# Altium schematic symbol library Schematic_Library.SchLib: 35 symbols
Pins are listed as number, name and electrical type; pins without a type are passive.

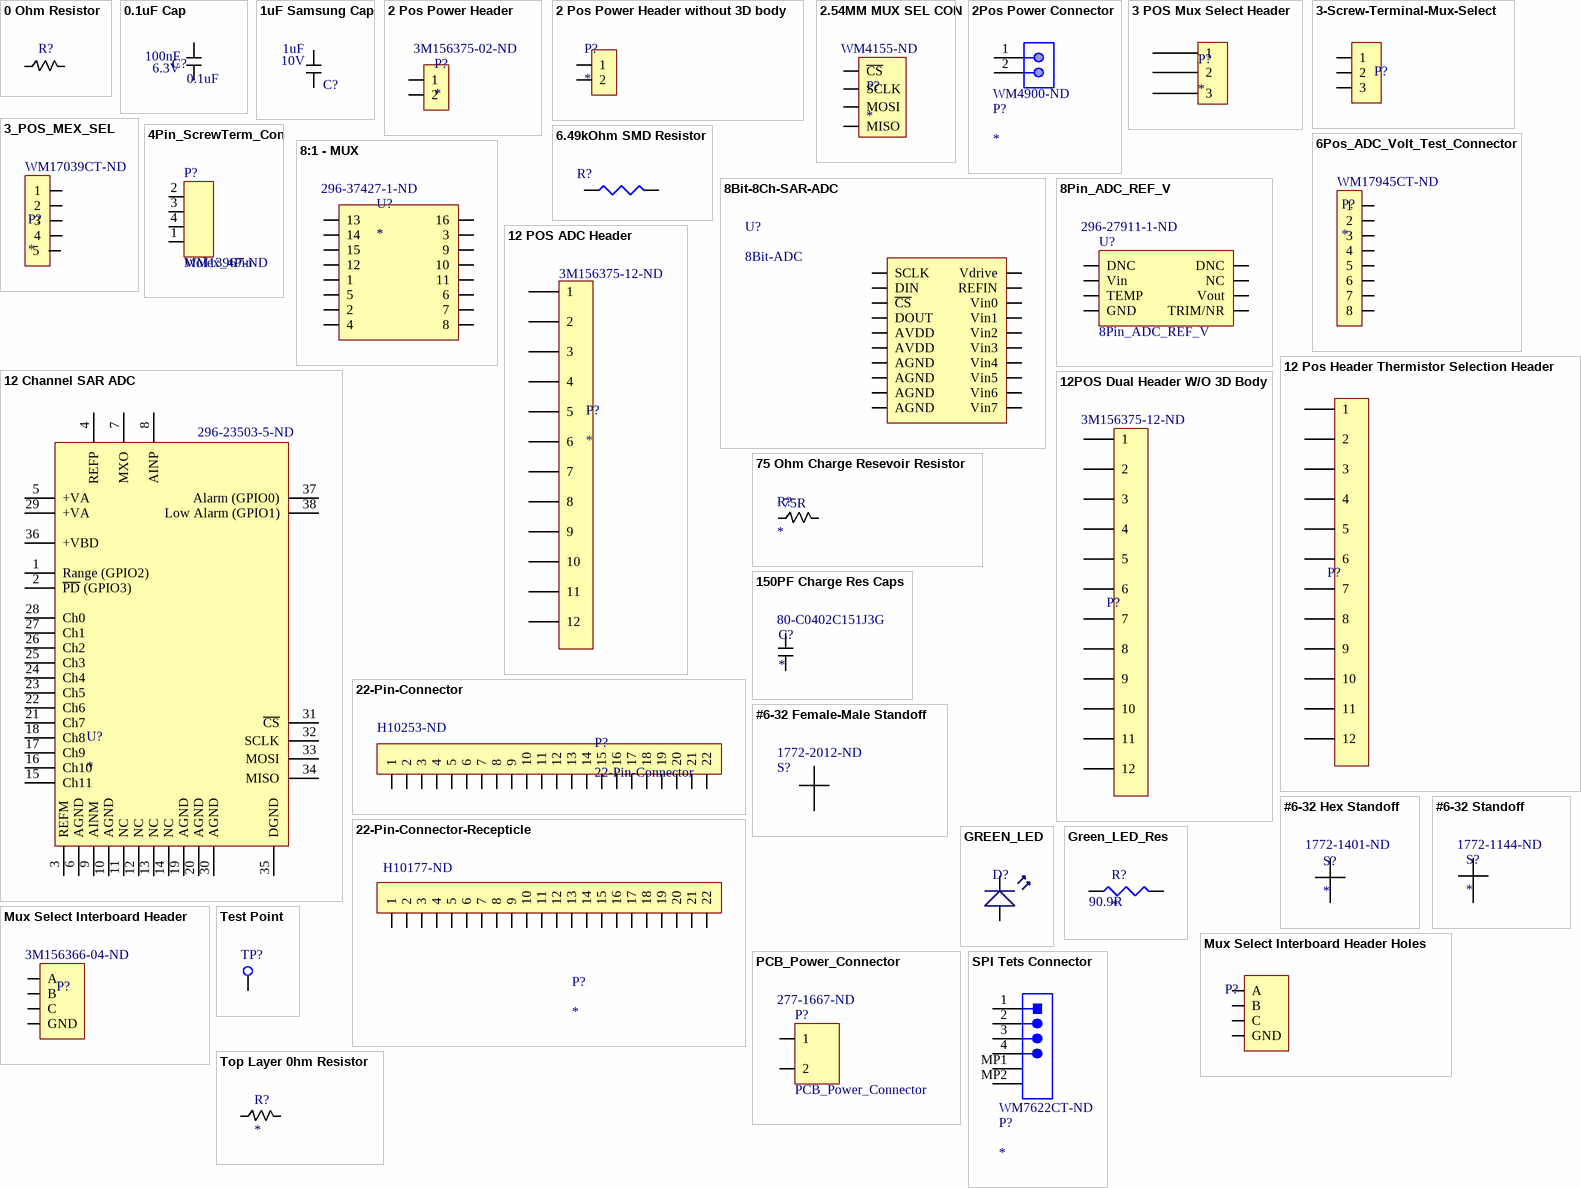
[diagram p0: symbols 0 Ohm Resistor to Top Layer 0hm Resistor]

## 0 Ohm Resistor
designator R?  (value not drawn)
0 Ohm Resistor for connecting polygon pours
footprint 0 Ohm Resistor
pins: 1, 2

## 0.1uF Cap
designator C?, comment 0.1uF  Capacitance: 100nF  Voltage Rating: 6.3V
0.1uF Bypass Cap; Manufacturer: KEMET; Manufacturer Part Number: C0603C104K9RACTU; Dielectric Material: Ceramic; Tolerance: 10%; Dielectric: X7R; Dissipation Factor: 5%; RoHS: Yes; Mount: Surface Mount; Case/Package: 0603; Case Code (Imperial): 0603; Case Code (Metric): 1608; Min Operating Temperature: -55°C; Max Operating Temperature: 125°C; Package Quantity: 4000; Packaging: Tape and Reel; Voltage Rating (DC): 6.3V; Termination: SMD/SMT; Length: 1.6mm; Height: 0.8mm; Width: 0.8mm; Thickness: 0.034inch; ComponentLink1URL: https://datasheet.ciiva.com/13371/kem-c1002-x7r-smd-357932-13371879.pdf?src-supplier=Mouser; ComponentLink1Description: https://datasheet.ciiva.com/13371/kem-c1002-x7r-smd-357932-13371879.pdf?src-supplier=Mouser; Supplier 1: Digi-Key; Stock 1: 758; Pricing 1: 1=0.19000, 10=0.13800, 100=0.06480, 500=0.04546, 1000=0.03763 (USD); Supplier Part Number 1: 399-15351-1-ND
footprint 0.1uF Bypass Capacitor (Chip Capacitor, 2-Leads, Body 1.60x0.80mm, IPC Medium Density)
pins: 1, 2

## 1uF Samsung Cap
designator C?, comment Voltage Rating: 10V  (hidden comment: 1uF)
1uF Samsung Cap; Manufacturer Part Number: CL10B105KP8NNNC; Tolerance: 10%; Dielectric: X7R; Manufacturer: Samsung; Mount: Surface Mount; Case/Package: 0603; Case Code (Metric): 1608; Case Code (Imperial): 0603; Contact Plating: Tin; Min Operating Temperature: -55°C; Max Operating Temperature: 125°C; Package Quantity: 1; Packaging: Tape and Reel; Voltage Rating (DC): 10V; Length: 1.6mm; Height: 0.8mm; Width: 0.031inch; Thickness: 0.035inch; Depth: 0.8mm; Radiation Hardening: No; Lead Free: Lead Free; ComponentLink1URL: https://media.digikey.com/pdf/Data%20Sheets/Samsung%20PDFs/CL_Series_MLCC_ds.pdf?src-supplier=Digi-Key; ComponentLink1Description: https://media.digikey.com/pdf/Data%20Sheets/Samsung%20PDFs/CL_Series_MLCC_ds.pdf?src-supplier=Digi-Key; ComponentLink2URL: http://www1.futureelectronics.com/doc/SAMSUNG/CL10B105KP8NNNC.pdf?src-supplier=Future+Electronics; ComponentLink2Description: http://www1.futureelectronics.com/doc/SAMSUNG/CL10B105KP8NNNC.pdf?src-supplier=Future+Electronics; ComponentLink3URL: https://www.verical.com/server-webapp/html/getDatasheet?partID=358410&src-supplier=Verical; ComponentLink3Description: https://www.verical.com/server-webapp/html/getDatasheet?partID=358410&src-supplier=Verical; Supplier 1: Digi-Key; Stock 1: 10781730; Pricing 1: 1=0.1, 10=0.052, 100=0.0233, 500=0.0166, 1000=0.0131 (USD); Supplier Part Number 1: 1276-1946-1-ND; Capacitance: 1uF
footprint 1UF_SAMSUNG
pins: 1, 2

## 2 Pos Power Header
designator P?  Supplier Part Number 1: 3M156375-02-ND
Manufacturer: 3M; Manufacturer Part Number: 929715-06-01-EU; Gender: Male; Number of Positions: 2; Connector Type: Male Pin; Current Rating: 2.5A; Pitch: 2.54mm; Row Spacing: 0.1inch; Supplier 1: Digi-Key; Stock 1: 0; Pricing 1: 1=0.43000, 10=0.40200, 25=0.34480, 50=0.29300, 100=0.28160, 250=0.25284, 500=0.24136 (USD); RoHS: Yes; Mount: Through Hole; Contact Plating: Gold; Color: Black; Contact Material: Copper Alloy; Housing Material: Polycyclohexylenedimethylene; Min Operating Temperature: -40°C; Max Operating Temperature: 105°C; Number of Rows: 2; Packaging: Bulk; Termination: Solder; Package Quantity: 1000; Contact Gender: Male; Contact Mating Length: 0.318inch; ComponentLink1URL: https://datasheet.ciiva.com/5147/ts0769-35914-5147696.pdf?src-supplier=Mouser; ComponentLink1Description: https://datasheet.ciiva.com/5147/ts0769-35914-5147696.pdf?src-supplier=Mouser; ComponentLink2URL: https://datasheet.ciiva.com/6818/ts0769-6818155.pdf?src-supplier=Digi-Key; ComponentLink2Description: https://datasheet.ciiva.com/6818/ts0769-6818155.pdf?src-supplier=Digi-Key
footprint 2 POS Power Header (Connecting Power between boards)
pins: 1, 2

## 2 Pos Power Header without 3D body
designator P?
No supplier part for this schematic symbol, only here to create board to board holes for the power header
footprint 2 Pos Power Header - duplicate (Without 3D body,)
pins: 1, 2

## 2.54MM MUX SEL CON
designator P?  Supplier Part Number 1: WM4155-ND
SPI Connector; Manufacturer: Molex; Manufacturer Part Number: 0705530108; Contact Resistance: 30mR; Number of Positions: 4; Connector Type: Male Pin; Pitch: 0.1inch; Voltage Rating: 250V; Current Rating: 3A; Gender: Male; Insulation Resistance: 1GR; Glow Wire Compliant: Non-compliant; Supplier 1: Digi-Key; Stock 1: 1281; Mount: Through Hole; Contact Plating: Gold; Contact Material: Bronze; Housing Material: Polyester; Color: Black; Housing Color: Black; Min Operating Temperature: -40°C; Max Operating Temperature: 105°C; Number of Rows: 1; Packaging: Rail/Tube; Termination: Solder; Orientation: Right Angle; Fastening Type: Latch; Length: 12.71mm; Contact Mating Length: 0.24inch; Depth: 13.59mm; Radiation Hardening: No; ComponentLink1URL: https://www.molex.com/pdm_docs/ps/PS-70400.pdf?src-supplier=Digi-Key; ComponentLink1Description: https://www.molex.com/pdm_docs/ps/PS-70400.pdf?src-supplier=Digi-Key; ComponentLink2URL: http://www.molex.com/webdocs/datasheets/pdf/en-us/0705530108_PCB_HEADERS.pdf?src-supplier=Avnet+Asia; ComponentLink2Description: http://www.molex.com/webdocs/datasheets/pdf/en-us/0705530108_PCB_HEADERS.pdf?src-supplier=Avnet+Asia; Pricing 1: 1=2.03, 10=1.838, 100=1.575, 500=1.3125, 1680=1.0875, 5040=0.9975, 10080=0.975 (USD); Material: Brass; Package Quantity: 1680; Number of Contacts: 4; Voltage Rating (DC): 250V; Number of Circuits: 4; REACH SVHC: Unknown; ELV: Compliant; Flammability Rating: UL94 V-0; ComponentLink3URL: http://www.farnell.com/datasheets/2027073.pdf?src-supplier=Element14; ComponentLink3Description: http://www.farnell.com/datasheets/2027073.pdf?src-supplier=Element14; ComponentLink4URL: http://www.molex.com/webdocs/datasheets/pdf/en-us/0705530108_PCB_HEADERS.pdf?src-supplier=Avnet; ComponentLink4Description: http://www.molex.com/webdocs/datasheets/pdf/en-us/0705530108_PCB_HEADERS.pdf?src-supplier=Avnet; ComponentLink5URL: http://www.mouser.com/ds/2/276/0705530108_PCB_HEADERS-172949.pdf?src-supplier=Mouser; ComponentLink5Description: http://www.mouser.com/ds/2/276/0705530108_PCB_HEADERS-172949.pdf?src-supplier=Mouser
footprint 4POS 2.54MM HEADER MUX SEL
pins: 1 MISO, 2 MOSI, 3 SCLK, 4 ~{CS}

## 2Pos Power Connector
designator P?  Supplier Part Number 1: WM4900-ND
Headers & Wire Housings R/A HDR 2P low profile single; Manufacturer: Molex; Manufacturer Part Number: 70553-0001; Current Rating: 3A; Voltage Rating: 250V; Contact Resistance: 30mR; Number of Positions: 2; Gender: Male; Insulation Resistance: 1GR; Pitch: 2.54mm; Approvals: UL; Glow Wire Compliant: Non-compliant; Supplier 1: Digi-Key; Stock 1: 8671; Pricing 1: 1=0.71000, 72=0.53486, 144=0.51264, 504=0.44575, 1008=0.36775, 5040=0.32318, 10008=0.30089 (USD); RoHS: Yes; Mount: Through Hole; Contact Material: Bronze; Contact Plating: Gold; Color: Black; Housing Color: Black; Material: Brass; Housing Material: Thermoplastic; Min Operating Temperature: -40°C; Max Operating Temperature: 105°C; Package Quantity: 2880; Number of Rows: 1; Packaging: Rail/Tube; Termination: Through Hole; Number of Contacts: 2; Orientation: Right Angle; Number of Circuits: 2; Voltage Rating (DC): 250V; Radiation Hardening: No; REACH SVHC: Unknown; Lead Free: Lead Free; Flammability Rating: UL94 V-0; ELV: Compliant; ComponentLink1URL: https://datasheet.ciiva.com/5158/0705530001-pcb-headers-172944-5158768.pdf?src-supplier=Mouser; ComponentLink1Description: https://datasheet.ciiva.com/5158/0705530001-pcb-headers-172944-5158768.pdf?src-supplier=Mouser; ComponentLink2URL: https://datasheet.ciiva.com/11746/0900766b80d8d649-11746625.pdf?src-supplier=RSComponents; ComponentLink2Description: https://datasheet.ciiva.com/11746/0900766b80d8d649-11746625.pdf?src-supplier=RSComponents; ComponentLink3URL: https://datasheet.ciiva.com/16657/0705530001-pcb-headers-16657777.pdf?src-supplier=Avnet+Europe; ComponentLink3Description: https://datasheet.ciiva.com/16657/0705530001-pcb-headers-16657777.pdf?src-supplier=Avnet+Europe; ComponentLink4URL: https://datasheet.ciiva.com/7920/ps-70541-7920854.pdf?src-supplier=Element14; ComponentLink4Description: https://datasheet.ciiva.com/7920/ps-70541-7920854.pdf?src-supplier=Element14; ComponentLink5URL: https://datasheet.ciiva.com/30195/179180705530001-pcb-headers-30195548.pdf?src-supplier=Onlinecomponents.com; ComponentLink5Description: https://datasheet.ciiva.com/30195/179180705530001-pcb-headers-30195548.pdf?src-supplier=Onlinecomponents.com; ComponentLink6URL: https://datasheet.ciiva.com/1438/1887076-1438989.pdf?src-supplier=Element14; ComponentLink6Description: https://datasheet.ciiva.com/1438/1887076-1438989.pdf?src-supplier=Element14; ComponentLink7URL: https://datasheet.ciiva.com/10090/0705530001-pcb-headers-10090317.pdf?src-supplier=Avnet; ComponentLink7Description: https://datasheet.ciiva.com/10090/0705530001-pcb-headers-10090317.pdf?src-supplier=Avnet
footprint 2Pos Power Connector
pins: 1, 2

## 3 POS Mux Select Header
designator P?
Mux Sel Header TP; Manufacturer: Adam Equipment; Manufacturer Part Number: PH1RA-03-UA; Supplier 1: Digi-Key; Stock 1: 4630; Pricing 1: 1=0.12000, 10=0.11300, 100=0.06960, 500=0.05760, 1000=0.05040, 5000=0.04320, 10000=0.04200 (USD); RoHS: Yes; Lead Free: Lead Free; ComponentLink1URL: https://datasheet.ciiva.com/16476/page-292-295-16476086.pdf?src-supplier=Future+Electronics; ComponentLink1Description: https://datasheet.ciiva.com/16476/page-292-295-16476086.pdf?src-supplier=Future+Electronics; Supplier Part Number 1: 2057-PH1RA-03-UA-ND
footprint Mux Select 3 Pos Header Pin
pins: 1, 2, 3

## 3-Screw-Terminal-Mux-Select
designator P?  (value not drawn)
Mux Select; Manufacturer: Wurth Electronics; Manufacturer Part Number: 691103110003; Voltage Rating: 125V; Current Rating: 10A; Number of Levels: 1; Number of Positions Per Level: 3; Wire/Cable Gauge: 26AWG; Pitch: 0.138inch; Stripping Length: -6mm; Supplier 1: Digi-Key; Stock 1: 617; Pricing 1: 1=1.1, 10=0.986, 50=0.851, 100=0.762, 500=0.717, 980=0.672 (USD); Contact Material: Brass; Color: Blue; Housing Material: Nylon; Number of Contacts: 3; Termination: Screw; Length: 7mm; Height: 12.2mm; Width: 11.5mm; REACH SVHC: Unknown; ComponentLink1URL: http://www.farnell.com/datasheets/1442217.pdf?src-supplier=Element14; ComponentLink1Description: http://www.farnell.com/datasheets/1442217.pdf?src-supplier=Element14; Supplier Part Number 1: 732-2746-ND
footprint 3-Screw-terminal-Mux-Select
pins: 1 "Output1", 2 "Output1", 3 "Output1"

## 3_POS_MEX_SEL
designator P?  Supplier Part Number 1: WM17039CT-ND
Connector Header Surface Mount, Right Angle 3 position 0.049" (1.25mm); Manufacturer: Molex; Manufacturer Part Number: 505567-0371; Connector Type: Header,Male Pin; Number of Positions: 3; Supplier 1: Digi-Key; Stock 1: 2041; Pricing 1: 1=0.84000, 10=0.74100, 100=0.63940, 500=0.52312 (USD); RoHS: No; Mount: Surface Mount; Contact Plating: Tin; Contact Material: Brass; Contact Shape: Square; Insulation Material: Nylon; Insulation Color: Black; Min Operating Temperature: -40°C; Max Operating Temperature: 105°C; Fastening Type: Ramp; Packaging: Cut Tape; Number of Rows: 1; Termination: Solder; Flammability Rating: UL94 V-0; ComponentLink1URL: https://www.molex.com/pdm_docs/sd/5055670371_sd.pdf?src-supplier=Digi-Key; ComponentLink1Description: https://www.molex.com/pdm_docs/sd/5055670371_sd.pdf?src-supplier=Digi-Key; ComponentLink2URL: http://www.farnell.com/datasheets/2551041.pdf?src-supplier=Newark; ComponentLink2Description: http://www.farnell.com/datasheets/2551041.pdf?src-supplier=Newark
footprint 3POS_MUX_SEL (CONN HEADER SMD R/A 3POS 1.25MM)
pins: 1, 2, 3, 4, 5

## 4Pin_ScrewTerm_Con
designator P?, comment Molex_4Pin  Supplier Part Number 1: WM13967-ND
Supplier 1: Digi-Key
footprint MUX_SEL_CON
pins: 1, 2, 3, 4

## 6.49kOhm SMD Resistor
designator R?  (value not drawn)
ADC Bias Resistor; Manufacturer: Panasonic; Manufacturer Part Number: ERA6AEB6491V; Tolerance: 0.1%; Resistance: 6.49kR; Temperature Coefficient: 25ppm/°C; Power Rating: 125mW; Voltage Rating: 100V; Supplier 1: Digi-Key; Stock 1: 15147; Pricing 1: 1=0.36, 10=0.302, 100=0.1182, 1000=0.0495, 2500=0.0454 (USD); Mount: Surface Mount; Case/Package: 0805; Number of Pins: 2; Contact Plating: Tin; Case Code (Metric): 2012; Case Code (Imperial): 0805; Min Operating Temperature: -55°C; Max Operating Temperature: 155°C; Composition: Thin Film,Metal Film; Packaging: Tape and Reel; Package Quantity: 1; Number of Terminations: 2; Termination: SMD/SMT; Military Standard: Not; Max Power Dissipation: 125mW; Voltage Rating (DC): 100V; Features: Automotive AEC-Q200; Length: 2mm; Height: 0.5mm; Width: 1.25mm; Depth: 1.25mm; Radiation Hardening: No; REACH SVHC: No SVHC; Lead Free: Lead Free; ComponentLink1URL: http://www.farnell.com/datasheets/485442.pdf?src-supplier=Farnell; ComponentLink1Description: http://www.farnell.com/datasheets/485442.pdf?src-supplier=Farnell; ComponentLink2URL: http://www.mouser.com/ds/2/315/AOA0000CE26-32660.pdf?src-supplier=Mouser; ComponentLink2Description: http://www.mouser.com/ds/2/315/AOA0000CE26-32660.pdf?src-supplier=Mouser; ComponentLink3URL: http://www.farnell.com/datasheets/2059650.pdf?src-supplier=Farnell; ComponentLink3Description: http://www.farnell.com/datasheets/2059650.pdf?src-supplier=Farnell; ComponentLink4URL: http://uk.rs-online.com/webdocs/0eb1/0900766b80eb1d8c.pdf?src-supplier=RSComponents; ComponentLink4Description: http://uk.rs-online.com/webdocs/0eb1/0900766b80eb1d8c.pdf?src-supplier=RSComponents; ComponentLink5URL: http://www.farnell.com/datasheets/485442.pdf?src-supplier=Element14; ComponentLink5Description: http://www.farnell.com/datasheets/485442.pdf?src-supplier=Element14; ComponentLink6URL: http://www.produktinfo.conrad.com/datenblaetter/1100000-1199999/001181295-da-01-en-WIDERSTAND_ERA_0805_6K49_0_1__5000ST.pdf?src-supplier=Conrad; ComponentLink6Description: http://www.produktinfo.conrad.com/datenblaetter/1100000-1199999/001181295-da-01-en-WIDERSTAND_ERA_0805_6K49_0_1__5000ST.pdf?src-supplier=Conrad; Supplier Part Number 1: P6.49KDACT-ND
footprint RESC2012X06N (Chip Resistor, 2-Leads, Body 2.00x1.25mm, IPC Medium Density)
pins: 1, 2

## 6Pos_ADC_Volt_Test_Connector
designator P?  Supplier Part Number 1: WM17945CT-ND
Connector Header Surface Mount, Right Angle 6 position 0.079" (2.00mm); Manufacturer: Molex; Manufacturer Part Number: 5055780671; Supplier 1: Digi-Key; Stock 1: 3435; Pricing 1: 1=1.02000, 10=0.89300, 100=0.77050 (USD); RoHS: No
footprint 6POS_ADC_Volt_TEST (CONN HEADER SMD R/A 6POS 2MM)
pins: 1, 2, 3, 4, 5, 6, 7, 8

## 8:1 - MUX
designator U?  Supplier Part Number 1: 296-37427-1-ND
Current Therm 8:1 Mux; Manufacturer: Texas Instruments; Manufacturer Part Number: SN74LV4051ATPWRQ1; Max Supply Voltage: 5.5V; Min Supply Voltage: 2V; Bandwidth: 35MHz; Propagation Delay: 7ns; Number of Channels: 1; Number of Inputs: 8; Logic Function: Multiplexer,Demultiplexer; On-State Resistance: 75R; Operating Supply Current: 20uA; Turn-On Delay Time: 20ns; Supply Type: Single; High Level Output Current: 25mA; Mount: Surface Mount; Case/Package: TSSOP; Number of Pins: 16; Weight: 0.002169oz; Contact Plating: Gold; Min Operating Temperature: -40°C; Max Operating Temperature: 105°C; Package Quantity: 1; Packaging: Tape and Reel; Number of Outputs: 1; Turn-Off Delay Time: 20ns; Number of Circuits: 1; Number of Bits: 8; Low Level Output Current: 25mA; Radiation Hardening: No; REACH SVHC: No SVHC; Lead Free: Lead Free; ComponentLink1URL: http://www.ti.com/lit/ds/symlink/sn74lv4051a-q1.pdf?src-supplier=Digi-Key; ComponentLink1Description: http://www.ti.com/lit/ds/symlink/sn74lv4051a-q1.pdf?src-supplier=Digi-Key; ComponentLink2URL: http://www.ti.com/lit/gpn/sn74lv4051a-q1?src-supplier=Mouser; ComponentLink2Description: http://www.ti.com/lit/gpn/sn74lv4051a-q1?src-supplier=Mouser; ComponentLink3URL: https://www.verical.com/server-webapp/html/getDatasheet?partID=137249&src-supplier=Verical; ComponentLink3Description: https://www.verical.com/server-webapp/html/getDatasheet?partID=137249&src-supplier=Verical; ComponentLink4URL: http://focus.ti.com/lit/ds/symlink/sn74lv4051a-q1.pdf?src-supplier=Avnet; ComponentLink4Description: http://focus.ti.com/lit/ds/symlink/sn74lv4051a-q1.pdf?src-supplier=Avnet; ComponentLink5URL: http://www.produktinfo.conrad.com/datenblaetter/1100000-1199999/001187277-da-01-en-IC_MUX_DE_SN74LV4051ATPWRQ1_TSSOP_16_TID.pdf?src-supplier=Conrad; ComponentLink5Description: http://www.produktinfo.conrad.com/datenblaetter/1100000-1199999/001187277-da-01-en-IC_MUX_DE_SN74LV4051ATPWRQ1_TSSOP_16_TID.pdf?src-supplier=Conrad; Supplier 1: Digi-Key; Stock 1: 2492; Pricing 1: 1=0.72000, 10=0.63600, 100=0.48730, 500=0.38522, 1000=0.30818 (USD); RoHS: Yes; -3db Bandwidth: 35MHz; ComponentLink6URL: https://datasheet.ciiva.com/15127/getdatasheetpartid-348177-15127781.pdf?src-supplier=Verical; ComponentLink6Description: https://datasheet.ciiva.com/15127/getdatasheetpartid-348177-15127781.pdf?src-supplier=Verical; ComponentLink7URL: https://datasheet.ciiva.com/14435/sn74lv4051a-q1-14435640.pdf?src-supplier=Avnet; ComponentLink7Description: https://datasheet.ciiva.com/14435/sn74lv4051a-q1-14435640.pdf?src-supplier=Avnet; ComponentLink8URL: https://datasheet.ciiva.com/29645/sn74lv4051a-q1-29645693.pdf?src-supplier=Digi-Key; ComponentLink8Description: https://datasheet.ciiva.com/29645/sn74lv4051a-q1-29645693.pdf?src-supplier=Digi-Key; ComponentLink9URL: https://datasheet.ciiva.com/29645/sn74lv4051a-q1-29645694.pdf?src-supplier=Digi-Key; ComponentLink9Description: https://datasheet.ciiva.com/29645/sn74lv4051a-q1-29645694.pdf?src-supplier=Digi-Key; ComponentLink10URL: https://datasheet.ciiva.com/29645/sn74lv4051a-q1-29645695.pdf?src-supplier=Digi-Key; ComponentLink10Description: https://datasheet.ciiva.com/29645/sn74lv4051a-q1-29645695.pdf?src-supplier=Digi-Key
footprint 8x1 16SOIC MUX (IC MUX/DEMUX 8X1 16SOIC)
pins: 1 "Output1", 2 "Output1", 3 "Output1", 4 "Output1", 5 "Output1", 6 "Output1", 7 "Output1", 8 "Output1", 9 "Output1", 10 "Output1", 11 "Output1", 12 "Output1", 13 "Output1", 14 "Output1", 15 "Output1", 16 "Output1"

## 8Bit-8Ch-SAR-ADC
designator U?, comment 8Bit-ADC
8Bit SAR ADC; Manufacturer: Analog Devices; Manufacturer Part Number: AD7908WYRUZ-REEL7; Max Power Dissipation: 13.5mW; Number of Channels: 8; Interface: SPI; Sampling Rate: 1MS/s; Number of A/D Converters: 1; Resolution: 8b; Signal to Noise Ratio (SNR): 49dB; Input Capacitance: 20pF; Max Input Voltage: 2.525V; Min Input Voltage: 2.475V; Supplier 1: Digi-Key; Stock 1: 1000; Pricing 1: 1=5.68, 10=5.1, 100=4.1789 (USD); Case/Package: TSSOP; Number of Pins: 20; Min Operating Temperature: -40°C; Max Operating Temperature: 85°C; Package Quantity: 1000; Packaging: Tape and Reel; Number of Bits: 8; Number of Inputs: 8; Power Dissipation: 13.5mW; Radiation Hardening: No; Lead Free: Contains Lead; ComponentLink1URL: http://www.analog.com/media/en/technical-documentation/data-sheets/AD7908_7918_7928.pdf?src-supplier=Digi-Key; ComponentLink1Description: http://www.analog.com/media/en/technical-documentation/data-sheets/AD7908_7918_7928.pdf?src-supplier=Digi-Key; ComponentLink2URL: http://www.produktinfo.conrad.com/datenblaetter/1200000-1299999/001245580-da-01-en-IC_ADC_8B_AD7908WYRUZ_REEL7_TSSOP_20_ADI.pdf?src-supplier=Conrad; ComponentLink2Description: http://www.produktinfo.conrad.com/datenblaetter/1200000-1299999/001245580-da-01-en-IC_ADC_8B_AD7908WYRUZ_REEL7_TSSOP_20_ADI.pdf?src-supplier=Conrad; Supplier Part Number 1: AD7908WYRUZ-REEL7CT-ND
footprint 8Bit-8Ch-SAR-ADC
pins: 1 SCLK, 2 DIN, 3 ~{CS}, 4 AGND, 5 AVDD, 6 AVDD, 7 REFIN, 8 AGND, 9 Vin7, 10 Vin6, 11 Vin5, 12 Vin4, 13 Vin3, 14 Vin2, 15 Vin1, 16 Vin0, 17 AGND, 18 DOUT, 19 Vdrive, 20 AGND

## 8Pin_ADC_REF_V
designator U?  Supplier Part Number 1: 296-27911-1-ND
Manufacturer: Texas Instruments; Manufacturer Part Number: REF5025AQDRQ1; Max Input Voltage: 18V; Output Voltage: 2.5V; Min Input Voltage: 2.7V; Nominal Supply Current: 800uA; Tolerance: 0.1%; Max Output Current: 10mA; Operating Supply Current: 1.2mA; Temperature Coefficient: 3ppm/°C; Reference Type: Series; Output Type: Fixed; Number of Channels: 1; Case/Package: D; Number of Pins: 8; Weight: 0.002677oz; Min Operating Temperature: -40°C; Max Operating Temperature: 125°C; Packaging: Tape and Reel; Package Quantity: 1; Min Output Voltage: 2.5V; Output Current: 10mA; Max Output Voltage: 2.5V; Quiescent Current: 800uA; Radiation Hardening: No; Lead Free: Lead Free; ComponentLink1URL: http://www.ti.com/lit/ds/symlink/ref5025a-q1.pdf; ComponentLink1Description: http://www.ti.com/lit/ds/symlink/ref5025a-q1.pdf; ComponentLink2URL: http://www.ti.com/lit/ds/symlink/ref5020a-q1.pdf?src-supplier=Digi-Key; ComponentLink2Description: http://www.ti.com/lit/ds/symlink/ref5020a-q1.pdf?src-supplier=Digi-Key; ComponentLink3URL: http://www.ti.com/lit/ds/symlink/ref5030a-q1.pdf?src-supplier=Digi-Key; ComponentLink3Description: http://www.ti.com/lit/ds/symlink/ref5030a-q1.pdf?src-supplier=Digi-Key; Supplier 1: Digi-Key; Stock 1: 16802; Pricing 1: 1=3.54, 10=3.182, 100=2.607, 500=2.2193, 1000=1.8717 (USD)
footprint SOIC127P600X175-8N (SOIC, 8-Leads, Body 4.90x3.90mm, Pitch 1.27mm, IPC Medium Density)
pins: 1 DNC, 2 Vin, 3 TEMP, 4 GND, 5 TRIM/NR, 6 Vout, 7 NC, 8 DNC

## 12 Channel SAR ADC
designator U?  Supplier Part Number 1: 296-23503-5-ND
12 Bit SAR ADC; Manufacturer: Texas Instruments; Manufacturer Part Number: ADS7952SDBT; Min Supply Voltage: 2.7V; Max Supply Voltage: 5.25V; Interface: SPI; Number of Channels: 12; Sampling Rate: 1MS/s; Number of Converters: 1; Resolution: 12b; Polarity: Unipolar; Supply Type: Analog; Integral Nonlinearity (INL): 1.5LSB; Signal to Noise Ratio (SNR): 71.7dB; Power Consumption: 11.5mW; Operating Supply Voltage: 3.3V; Full Scale Error: 2LSB; Power Dissipation: 14.5mW; Nominal Supply Current: 2.3mA; Supplier 1: Digi-Key; Stock 1: 1697; Pricing 1: 1=9.30000, 10=8.40000, 50=8.00940, 100=6.95450, 500=6.05586, 1000=5.27445 (USD); RoHS: Yes; Mount: Surface Mount; Case/Package: TSSOP; Number of Pins: 38; Contact Plating: Gold; Min Operating Temperature: -40°C; Max Operating Temperature: 125°C; Packaging: Rail/Tube; Package Quantity: 50; Number of Bits: 12; Number of Elements: 1; Number of A/D Converters: 1; Number of Analog Inputs: 12; Conversion Rate: 1MS/s; Number of Inputs: 12; Radiation Hardening: No; Lead Free: Lead Free; REACH SVHC: No SVHC; ComponentLink1URL: https://datasheet.ciiva.com/41460/001186285-da-01-en-ic-adc-12bit-1m-ads7952sdbt-tssop-38-tid-41460243.pdf?src-supplier=Conrad; ComponentLink1Description: https://datasheet.ciiva.com/41460/001186285-da-01-en-ic-adc-12bit-1m-ads7952sdbt-tssop-38-tid-41460243.pdf?src-supplier=Conrad; ComponentLink2URL: https://datasheet.ciiva.com/14258/ads7961-14258981.pdf?src-supplier=Avnet; ComponentLink2Description: https://datasheet.ciiva.com/14258/ads7961-14258981.pdf?src-supplier=Avnet; ComponentLink3URL: https://datasheet.ciiva.com/1263/ads7950-1263926.pdf?src-supplier=Digi-Key; ComponentLink3Description: https://datasheet.ciiva.com/1263/ads7950-1263926.pdf?src-supplier=Digi-Key
footprint 12 Channel SAR ADC (TSSOP, 38-Leads, Body 9.70x4.40mm, Pitch 0.50mm, IPC High Density)
pins: 1 Range (GPIO2), 2 ~{PD} (GPIO3), 3 REFM, 4 REFP, 5 +VA, 6 AGND, 7 MXO, 8 AINP, 9 AINM, 10 AGND, 11 NC, 12 NC, 13 NC, 14 NC, 15 Ch11, 16 Ch10, 17 Ch9, 18 Ch8, 19 AGND, 20 AGND, 21 Ch7, 22 Ch6, 23 Ch5, 24 Ch4, 25 Ch3, 26 Ch2, 27 Ch1, 28 Ch0, 29 +VA, 30 AGND, 31 ~{CS}, 32 SCLK, 33 MOSI, 34 MISO, 35 DGND, 36 +VBD, 37 Alarm (GPIO0), 38 Low Alarm (GPIO1)

## 12 POS ADC Header
designator P?  Supplier Part Number 1: 3M156375-12-ND
Interboard connector for thermistors connecting to ADC; Manufacturer: 3M; Manufacturer Part Number: 929715-06-06-EU; Number of Positions: 12; Connector Type: Male Pin; Gender: Male; Pitch: 0.1inch; Supplier 1: Digi-Key; Stock 1: 0; Pricing 1: 1=1.86000, 10=1.69000, 25=1.58600, 50=1.51720, 100=1.44820, 250=1.31024, 500=1.20680 (USD); RoHS: Yes; Mount: Through Hole; Contact Plating: Gold; Color: Black; Number of Rows: 2; Packaging: Bulk; Termination: Solder; Package Quantity: 500; Row Spacing: 0.1inch; Contact Mating Length: 0.318inch; ComponentLink1URL: http://www.mouser.com/ds/2/1/ts0769-35914.pdf?src-supplier=Mouser; ComponentLink1Description: http://www.mouser.com/ds/2/1/ts0769-35914.pdf?src-supplier=Mouser; ComponentLink2URL: http://components.arrow.com/part/dataview/42715320S8912076N3321?src-supplier=Arrow; ComponentLink2Description: http://components.arrow.com/part/dataview/42715320S8912076N3321?src-supplier=Arrow; ComponentLink3URL: http://multimedia.3m.com/mws/mediawebserver?66666UuZjcFSLXTtmXME5x46EVuQEcuZgVs6EVs6E666666--?src-supplier=Digi-Key; ComponentLink3Description: http://multimedia.3m.com/mws/mediawebserver?66666UuZjcFSLXTtmXME5x46EVuQEcuZgVs6EVs6E666666--?src-supplier=Digi-Key; System: Connector
footprint 12 POS Dual Header (Board to Board ADC Channel Header)
pins: 1, 2, 3, 4, 5, 6, 7, 8, 9, 10, 11, 12

## 12 Pos Header Thermistor Selection Header
designator P?  (value not drawn)
Manufacturer: Amphenol FCI; Manufacturer Part Number: 67996-212HLF; Current Rating: 3A; Voltage Rating: 1.5kV; Number of Positions: 12; Insulation Resistance: 5GR; Gender: Male; Connector Type: Male Pin; Pitch: 2.54mm; Row Spacing: 0.1inch; Contact Post Length: 2.41mm; Supplier 1: Digi-Key; Stock 1: 8841; Pricing 1: 1=0.53000, 10=0.49400, 100=0.37900, 500=0.32960, 1000=0.27192, 5000=0.23896, 10000=0.22248 (USD); RoHS: Yes; Mount: Through Hole; Color: Black; Contact Plating: Gold,GXT; Contact Material: Bronze; Housing Color: Black; Housing Material: Thermoplastic; Min Operating Temperature: -65°C; Max Operating Temperature: 125°C; Package Quantity: 100; Number of Rows: 2; Packaging: Bulk; Contact Gender: Male; Termination: Solder; Max Voltage Rating (AC): 1.5kV; Number of Contacts: 12; Orientation: Straight; Length: 15.24mm; Contact Mating Length: 0.23inch; Depth: 4.83mm; REACH SVHC: No SVHC; ComponentLink1URL: https://datasheet.ciiva.com/728/67996-728947.pdf?src-supplier=Digi-Key; ComponentLink1Description: https://datasheet.ciiva.com/728/67996-728947.pdf?src-supplier=Digi-Key; ComponentLink2URL: https://datasheet.ciiva.com/10136/67996-10136811.pdf?src-supplier=Avnet; ComponentLink2Description: https://datasheet.ciiva.com/10136/67996-10136811.pdf?src-supplier=Avnet; Supplier Part Number 1: 609-3213-ND
footprint 12 POS Thermistor Selection Header (Jumpers are placed here to select which pin on ADC header)
pins: 1, 2, 3, 4, 5, 6, 7, 8, 9, 10, 11, 12

## 12POS Dual Header W/O 3D Body
designator P?  Supplier Part Number 1: 3M156375-12-ND  (hidden comment: *)
Connector Header Through Hole 12 position 0.100" (2.54mm); Manufacturer: 3M; Manufacturer Part Number: 929715-06-06-EU; Number of Positions: 12; Gender: Male; Connector Type: Male Pin; Pitch: 0.1inch; Supplier 1: Digi-Key; Stock 1: 0; Pricing 1: 1=1.86000, 10=1.69000, 25=1.58600, 50=1.51720, 100=1.44820, 250=1.31024, 500=1.20680 (USD); RoHS: Yes; Mount: Through Hole; Color: Black; Contact Plating: Gold; Package Quantity: 500; Number of Rows: 2; Packaging: Bulk; Termination: Solder; Row Spacing: 0.1inch; Contact Mating Length: 0.318inch; ComponentLink1URL: http://components.arrow.com/part/dataview/42715320S8912076N3321?src-supplier=Arrow; ComponentLink1Description: http://components.arrow.com/part/dataview/42715320S8912076N3321?src-supplier=Arrow; ComponentLink2URL: http://www.mouser.com/ds/2/1/ts0769-35914.pdf?src-supplier=Mouser; ComponentLink2Description: http://www.mouser.com/ds/2/1/ts0769-35914.pdf?src-supplier=Mouser; ComponentLink3URL: http://multimedia.3m.com/mws/mediawebserver?66666UuZjcFSLXTtmXME5x46EVuQEcuZgVs6EVs6E666666--?src-supplier=Digi-Key; ComponentLink3Description: http://multimedia.3m.com/mws/mediawebserver?66666UuZjcFSLXTtmXME5x46EVuQEcuZgVs6EVs6E666666--?src-supplier=Digi-Key
footprint 12POS Dual Header W/O 3D Body
pins: 1, 2, 3, 4, 5, 6, 7, 8, 9, 10, 11, 12

## 22-Pin-Connector
designator P?  Supplier Part Number 1: H10253-ND
Current Therm Connector; Manufacturer: Hirose; Manufacturer Part Number: DF11-22DP-2DS(24); Number of Contacts: 22; Gender: Male; Connector Type: Male Pin; Contact Resistance: 30mR; Max Current Rating: 2A; Voltage Rating: 250V; Pitch: 2mm; Row Spacing: 0.079inch; Mount: Through Hole; Contact Plating: Tin; Contact Material: Brass,Copper Alloy,Tin; Color: Black; Housing Color: Black; Housing Material: Polyamide; Min Operating Temperature: -30°C; Max Operating Temperature: 85°C; Number of Rows: 2; Termination: Solder; Packaging: Rail/Tube; Package Quantity: 20; Fastening Type: Detent; Number of Positions: 22; Current Rating: 2A; Orientation: Right Angle; Length: 24mm; Height: 5mm; Contact Mating Length: 0.118inch; Depth: 10mm; Radiation Hardening: No; Lead Free: Lead Free; ComponentLink1URL: http://docs-usa.electrocomponents.com/techlib:/itc_doclist_US.htm?stockno=6888963&src-supplier=Allied+Electronics; ComponentLink1Description: http://docs-usa.electrocomponents.com/techlib:/itc_doclist_US.htm?stockno=6888963&src-supplier=Allied+Electronics; ComponentLink2URL: https://www.verical.com/server-webapp/html/getDatasheet?partID=456315&src-supplier=Verical; ComponentLink2Description: https://www.verical.com/server-webapp/html/getDatasheet?partID=456315&src-supplier=Verical; ComponentLink3URL: http://www.hirose.co.jp/cataloge_hp/en_DF11_20130411.pdf?src-supplier=Future+Electronics; ComponentLink3Description: http://www.hirose.co.jp/cataloge_hp/en_DF11_20130411.pdf?src-supplier=Future+Electronics; ComponentLink4URL: http://www.farnell.com/datasheets/91550.pdf?src-supplier=Element14; ComponentLink4Description: http://www.farnell.com/datasheets/91550.pdf?src-supplier=Element14; ComponentLink5URL: http://www.mouser.com/ds/2/185/DF11_catalog-1064296.pdf?src-supplier=Mouser; ComponentLink5Description: http://www.mouser.com/ds/2/185/DF11_catalog-1064296.pdf?src-supplier=Mouser; ComponentLink6URL: http://documents.rs-components.com/techlib://itc_doclist_GB.htm?stockno=6056598&src-supplier=RSComponents; ComponentLink6Description: http://documents.rs-components.com/techlib://itc_doclist_GB.htm?stockno=6056598&src-supplier=RSComponents; Supplier 1: Digi-Key; Stock 1: 3536; Pricing 1: 1=1.19, 20=1.0455, 100=0.902, 500=0.738, 1000=0.656 (USD)
footprint 22-Pin Conenctor
pins: 1, 2, 3, 4, 5, 6, 7, 8, 9, 10, 11, 12, 13, 14, 15, 16, 17, 18, 19, 20, 21, 22

## 22-Pin-Connector-Recepticle
designator P?  Supplier Part Number 1: H10177-ND
Manufacturer: Hirose; Manufacturer Part Number: DF11-22DS-2DSA(05); Contact Resistance: 30mR; Mating Cycles: 30; Voltage Rating (AC): 30V; Current Rating: 2A; Number of Positions: 22; Connector Type: Receptacle; Insulation Resistance: 1GR; Pitch: 2mm; Row Spacing: 0.079inch; Supplier 1: Digi-Key; Stock 1: 843; Pricing 1: 1=1.40000, 10=1.27400, 100=1.09200, 500=0.91000, 1000=0.78000 (USD); RoHS: Yes; Mount: Through Hole; Contact Plating: Tin; Contact Material: Copper; Color: Black; Housing Color: Black; Housing Material: Polyamide; Number of Rows: 2; Contact Gender: Female; Package Quantity: 100; Packaging: Bulk; Termination: Through Hole; Gender: Receptacle; Number of Contacts: 22; Orientation: Straight; Lead Pitch: 2mm; REACH SVHC: No SVHC; Lead Free: Lead Free; Flammability Rating: UL94 V-0; ComponentLink1URL: https://datasheet.ciiva.com/11752/0900766b80d975f3-11752361.pdf?src-supplier=RSComponents; ComponentLink1Description: https://datasheet.ciiva.com/11752/0900766b80d975f3-11752361.pdf?src-supplier=RSComponents; ComponentLink2URL: https://datasheet.ciiva.com/14122/df11serie-eng-tds-14122182.pdf?src-supplier=Distrelec; ComponentLink2Description: https://datasheet.ciiva.com/14122/df11serie-eng-tds-14122182.pdf?src-supplier=Distrelec; ComponentLink3URL: https://datasheet.ciiva.com/5155/en-df11-20130411-258217-5155093.pdf?src-supplier=Mouser; ComponentLink3Description: https://datasheet.ciiva.com/5155/en-df11-20130411-258217-5155093.pdf?src-supplier=Mouser
footprint 22 POS Connector Recepticle
pins: 1, 2, 3, 4, 5, 6, 7, 8, 9, 10, 11, 12, 13, 14, 15, 16, 17, 18, 19, 20, 21, 22

## 75 Ohm Charge Resevoir Resistor
designator R?  Resistance: 75R
Manufacturer: Rohm; Manufacturer Part Number: KTR03EZPF75R0; Tolerance: 1%; Max Power Dissipation: 100mW; Temperature Coefficient: 100ppm/°C; Supplier 1: Digi-Key; Stock 1: 9052; Pricing 1: 1=0.15000, 10=0.13500, 100=0.05200, 1000=0.02287, 2500=0.01975 (USD); RoHS: Yes; Case/Package: 0603; Case Code (Metric): 1608; Case Code (Imperial): 0603; Min Operating Temperature: -55°C; Max Operating Temperature: 155°C; Package Quantity: 1; Packaging: Cut Tape; Composition: Thick Film; Number of Terminations: 2; Features: Automotive AEC-Q200; Length: 0.063inch; Height: 0.022inch; Width: 0.031inch; ComponentLink1URL: https://datasheet.ciiva.com/14930/ktr-14930245.pdf?src-supplier=Digi-Key; ComponentLink1Description: https://datasheet.ciiva.com/14930/ktr-14930245.pdf?src-supplier=Digi-Key; ComponentLink2URL: https://datasheet.ciiva.com/14924/ktr-14924923.pdf?src-supplier=Digi-Key; ComponentLink2Description: https://datasheet.ciiva.com/14924/ktr-14924923.pdf?src-supplier=Digi-Key; ComponentLink3URL: https://datasheet.ciiva.com/14928/ktr-14928475.pdf?src-supplier=Digi-Key; ComponentLink3Description: https://datasheet.ciiva.com/14928/ktr-14928475.pdf?src-supplier=Digi-Key; Supplier Part Number 1: RHM75AYCT-ND
footprint Chip2PinSM127P600-8N (75 Ohm Charge Resevoir Resistor)
pins: 1, 2

## 150PF Charge Res Caps
designator C?  Supplier Part Number 1: 80-C0402C151J3G
Charge Res Caps for ADC input channels; Manufacturer: KEMET; Manufacturer Part Number: C0402C151J3GACTU; Dielectric Material: Ceramic; Capacitance: 150pF; Voltage Rating: 25V; Tolerance: 5%; Dielectric: C0G; Supplier 1: Mouser; Stock 1: 1976; Pricing 1: 1=0.39000, 10=0.23200, 50=0.23200, 100=0.14100, 500=0.12800, 1000=0.11500, 2000=0.09600, 10000=0.07600 (USD); RoHS: Yes; Mount: Surface Mount; Case/Package: 0402; Min Operating Temperature: -55°C; Max Operating Temperature: 125°C; Package Quantity: 10000; Packaging: Tape and Reel; Voltage Rating (DC): 25V; Length: 0.039inch; Width: 0.02inch; Thickness: 0.022inch; Depth: 0.5mm; Radiation Hardening: No; Lead Free: Lead Free; ComponentLink1URL: http://components.arrow.com/part/dataview/46126249S9911696N7429?src-supplier=Arrow; ComponentLink1Description: http://components.arrow.com/part/dataview/46126249S9911696N7429?src-supplier=Arrow; ComponentLink2URL: http://www.kemet.com/docfinder?Partnumber=C0402C151J3GACTU&src-supplier=Digi-Key; ComponentLink2Description: http://www.kemet.com/docfinder?Partnumber=C0402C151J3GACTU&src-supplier=Digi-Key
footprint 150PF Cap Charge Resevoir (Charge Res Caps for ADC Input Channels)
pins: 1, 2

## #6-32 Female-Male Standoff
designator S?  Supplier Part Number 1: 1772-2012-ND  (hidden comment: *)
Hex Standoff Threaded #6-32 Aluminum 0.375" (9.53mm) 3/8"; Manufacturer: RAF; Manufacturer Part Number: 4532-632-AL-7; Plating: Iridite; Gender: Male to Female; System: Connector; Supplier 1: Digi-Key; Stock 1: 6226; Pricing 1: 1=0.43000, 25=0.28720, 100=0.24440, 250=0.23220, 500=0.21996, 1000=0.20774 (USD); RoHS: Yes; Mount: Hardware; Case/Package: Aluminum; Material: Aluminium; Shape: Hex; Packaging: Bulk; Package Quantity: 100; Length: 0.375inch; REACH SVHC: Unknown; ComponentLink1URL: https://datasheet.ciiva.com/7374/1232651-7374258.pdf?src-supplier=Newark; ComponentLink1Description: https://datasheet.ciiva.com/7374/1232651-7374258.pdf?src-supplier=Newark; ComponentLink2URL: https://datasheet.ciiva.com/5226/4532-632-al-7-198196-5226842.pdf?src-supplier=Mouser; ComponentLink2Description: https://datasheet.ciiva.com/5226/4532-632-al-7-198196-5226842.pdf?src-supplier=Mouser; ComponentLink3URL: https://datasheet.ciiva.com/7921/1232651-7921382.pdf?src-supplier=Element14; ComponentLink3Description: https://datasheet.ciiva.com/7921/1232651-7921382.pdf?src-supplier=Element14
footprint #6-32 Female-Male Standoff (Hex Standoff Threaded #6-32 Aluminum 0.375" (9.53mm) 3/8")
pins: 1

## #6-32 Hex Standoff
designator S?  Supplier Part Number 1: 1772-1401-ND
Hex standoff for Thermistor GND Board; Manufacturer: RAF; Manufacturer Part Number: 2104-632-AL; Gender: Female to Female; System: Connector; Supplier 1: Digi-Key; Stock 1: 3884; Pricing 1: 1=0.26000, 25=0.17400, 100=0.14820, 250=0.14080, 500=0.13338, 1000=0.12597 (USD); RoHS: Yes; Case/Package: Aluminum; Material: Aluminium; Shape: Hex; Length: 0.5inch; ComponentLink1URL: https://datasheet.ciiva.com/18425/70006493-18425850.pdf?src-supplier=Allied+Electronics; ComponentLink1Description: https://datasheet.ciiva.com/18425/70006493-18425850.pdf?src-supplier=Allied+Electronics; ComponentLink2URL: https://datasheet.ciiva.com/30059/2101-1032-b-5-30059595.pdf?src-supplier=Onlinecomponents.com; ComponentLink2Description: https://datasheet.ciiva.com/30059/2101-1032-b-5-30059595.pdf?src-supplier=Onlinecomponents.com
footprint #6-32 GND Standoff (Hex standoff for Thermistor GND PCB)
pins: 1

## #6-32 Standoff
designator S?  Supplier Part Number 1: 1772-1144-ND
Hex Standoff for Thermistor Boards; Manufacturer: RAF; Manufacturer Part Number: 2102T-632-AL-7; System: Connector; Supplier 1: Digi-Key; Stock 1: 1687; Pricing 1: 1=0.5, 25=0.3328, 100=0.2834, 250=0.2692, 500=0.2551, 1000=0.2409 (USD); Package Quantity: 100
footprint #6-32 Stand Off
pins: 1

## GREEN_LED
designator D?, comment LED  (value not drawn)
Manufacturer: Dialight; Manufacturer Part Number: 5988070107F; Color: Green; Lens Color: Colorless,Clear; Forward Voltage: 2V; Forward Current: 20mA; Wavelength: 570nm; Luminous Intensity: 20mcd; Viewing Angle: 140°; Lens Style: Flat,Rectangular,Diffused,Colorless,Clear; Dominant Wavelength: 568nm; Number of Elements: 1; Power Dissipation: 60mW; Reverse Voltage: 5V; Lens Transparency: Clear; Lens Size: 0.8mm; Supplier 1: Digi-Key; Stock 1: 228546; Pricing 1: 1=0.46, 10=0.33, 25=0.2528, 100=0.1648, 250=0.1209, 500=0.1026, 1000=0.0843 (USD); Mount: Surface Mount; Case/Package: 0603; Number of Pins: 2; Case Code (Metric): 1608; Case Code (Imperial): 0603; Min Operating Temperature: -30°C; Max Operating Temperature: 100°C; Package Quantity: 4000; Packaging: Tape and Reel; Illumination Color: Green; Test Current: 20mA; Number of LEDs: 1; Length: 1.6mm; Height: 0.7mm; Depth: 0.8mm; Width: 0.8mm; Radiation Hardening: No; Lead Free: Lead Free; REACH SVHC: No SVHC; ComponentLink1URL: http://www.mouser.com/ds/2/109/SMT_selector_guide-267443.pdf?src-supplier=Mouser; ComponentLink1Description: http://www.mouser.com/ds/2/109/SMT_selector_guide-267443.pdf?src-supplier=Mouser; ComponentLink2URL: http://uk.rs-online.com/webdocs/0ae2/0900766b80ae2975.pdf?src-supplier=RSComponents; ComponentLink2Description: http://uk.rs-online.com/webdocs/0ae2/0900766b80ae2975.pdf?src-supplier=RSComponents; ComponentLink3URL: http://www.farnell.com/datasheets/1720200.pdf?src-supplier=Element14; ComponentLink3Description: http://www.farnell.com/datasheets/1720200.pdf?src-supplier=Element14; ComponentLink4URL: https://media.digikey.com/pdf/Data%20Sheets/Dialight%20PDFs/598_Series_0603_Pkg.pdf?src-supplier=Digi-Key; ComponentLink4Description: https://media.digikey.com/pdf/Data%20Sheets/Dialight%20PDFs/598_Series_0603_Pkg.pdf?src-supplier=Digi-Key; ComponentLink5URL: http://www.farnell.com/datasheets/1484480.pdf?src-supplier=Element14; ComponentLink5Description: http://www.farnell.com/datasheets/1484480.pdf?src-supplier=Element14; ComponentLink6URL: https://www.alliedelec.com/m/d/745256ca487aea7b70ea31e2d673d5bb.pdf?src-supplier=Allied+Electronics; ComponentLink6Description: https://www.alliedelec.com/m/d/745256ca487aea7b70ea31e2d673d5bb.pdf?src-supplier=Allied+Electronics; ComponentLink7URL: http://www.onlinecomponents.com/productFiles/mf-DIA/mdei5980603.pdf?src-supplier=Onlinecomponents.com; ComponentLink7Description: http://www.onlinecomponents.com/productFiles/mf-DIA/mdei5980603.pdf?src-supplier=Onlinecomponents.com; ComponentLink8URL: https://www.verical.com/server-webapp/html/getDatasheet?partID=146438&src-supplier=Verical; ComponentLink8Description: https://www.verical.com/server-webapp/html/getDatasheet?partID=146438&src-supplier=Verical; ComponentLink9URL: http://www.dialight.com/Assets/Brochures_And_Catalogs/Indication/SMT_selector_guide.pdf?src-supplier=Future+Electronics; ComponentLink9Description: http://www.dialight.com/Assets/Brochures_And_Catalogs/Indication/SMT_selector_guide.pdf?src-supplier=Future+Electronics; Supplier Part Number 1: 350-2035-1-ND
footprint Green_SMD_LED
pins: 1, 2

## Green_LED_Res
designator R?  Resistance: 90.9R
Manufacturer: Panasonic; Manufacturer Part Number: ERJ-1GNF90R9C; Power Rating: 50mW; Tolerance: 1%; Voltage Rating: 25V; Temperature Coefficient: 200ppm/°C; Voltage Rating (DC): 50V; Mount: Surface Mount; Case/Package: 0201; Case Code (Imperial): 0201; Case Code (Metric): 0603; Contact Plating: Tin,Matte; Min Operating Temperature: -55°C; Max Operating Temperature: 125°C; Package Quantity: 15000; Packaging: Tape and Reel; Composition: Thick Film; Number of Terminations: 2; Max Power Dissipation: 50mW; Termination: SMD/SMT; Length: 0.024inch; Height: 0.01inch; Width: 0.3mm; Radiation Hardening: No; Supplier 1: Digi-Key; Stock 1: 401780; Pricing 1: 1=0.10000, 10=0.02400, 100=0.00970, 1000=0.00437, 2500=0.00379 (USD); RoHS: Yes; Military Standard: Not; Depth: 0.8mm; Lead Free: Lead Free; ComponentLink1URL: https://datasheet.ciiva.com/15189/getdatasheetpartid-326528-15189836.pdf?src-supplier=Verical; ComponentLink1Description: https://datasheet.ciiva.com/15189/getdatasheetpartid-326528-15189836.pdf?src-supplier=Verical; ComponentLink2URL: https://datasheet.ciiva.com/12558/rc0603-272842-12558285.pdf?src-supplier=Mouser; ComponentLink2Description: https://datasheet.ciiva.com/12558/rc0603-272842-12558285.pdf?src-supplier=Mouser; Supplier Part Number 1: 311-90.9HRCT-ND
footprint Green_LED_Resistor_90.9
pins: 1, 2

## Mux Select Interboard Header
designator P?  Supplier Part Number 1: 3M156366-04-ND  (hidden comment: *)
Connector Header Through Hole 4 position 0.100" (2.54mm); Manufacturer: 3M; Manufacturer Part Number: 929710-06-02-RK; Description: CONN HEADER 4POS STR DL .100 TIN; Number of Positions: 4; Gender: Male; Connector Type: Male Pin; Pitch: 0.1inch; Supplier 1: Digi-Key; Stock 1: 0; Pricing 1: 1=0.55000, 10=0.52000, 25=0.46800, 50=0.41600, 100=0.39870, 250=0.36400, 500=0.34666 (USD); RoHS: Yes; Mount: Through Hole; Color: Black; Contact Plating: Tin; Package Quantity: 1000; Number of Rows: 2; Packaging: Bulk; Termination: Solder; Row Spacing: 0.1inch; Contact Mating Length: 0.318inch; ComponentLink1URL: https://datasheet.ciiva.com/6818/ts0769-6818121.pdf?src-supplier=Digi-Key; ComponentLink1Description: https://datasheet.ciiva.com/6818/ts0769-6818121.pdf?src-supplier=Digi-Key; ComponentLink2URL: https://datasheet.ciiva.com/15402/ts0769-15402221.pdf?src-supplier=Mouser; ComponentLink2Description: https://datasheet.ciiva.com/15402/ts0769-15402221.pdf?src-supplier=Mouser
footprint Mux Select Interboard Header
pins: 1 A, 2 B, 3 C, 4 GND

## Mux Select Interboard Header Holes
designator P?  (value not drawn)
Serving as through holes, not the header it self
pins: 1 A, 2 B, 3 C, 4 GND

## PCB_Power_Connector
designator P?  Supplier Part Number 1: 277-1667-ND
Manufacturer: Phoenix Contact; Manufacturer Part Number: PT1,5/2-5.0-H; Max Current Rating: 16A; Max Supply Voltage: 250V; Current Rating: 17.5A; Number of Poles: 2; Number of Levels: 1; Current: 18A; Voltage: 300V; Voltage Rating (DC): 320V; Connector Type: Screw; Wire Gauge (Max): 26AWG; Wire Gauge (Min): 12AWG; Pitch: 5mm; Wire/Cable Gauge: 14AWG; Approvals: UL; Supplier 1: Digi-Key; Stock 1: 104404; Pricing 1: 1=0.43, 10=0.411, 50=0.3928, 100=0.382, 250=0.357, 500=0.3284, 1000=0.3035 (USD); Mount: Through Hole; Number of Pins: 2; Weight: 0.067021oz; Color: Green; Material: Nylon; Housing Color: Green; Housing Material: Polyamide; Insulation Material: Nylon; Contact Material: Copper,Tin; Number of Rows: 1; Voltage Rating: 250V; Package Quantity: 250; Packaging: Bulk; Number of Positions: 2; Number of Positions Per Level: 2; Termination: Solder; Number of Contacts: 2; Number of Circuits: 2; Orientation: Straight; Length: 9mm; Height: 11.3mm; Width: 14.9mm; Depth: 9mm; Radiation Hardening: No; Lead Free: Lead Free; Flammability Rating: UL94 V-0; ComponentLink1URL: https://media.digikey.com/pdf/Data%20Sheets/Phoenix%20Contact%20PDFs/1935161.pdf; ComponentLink1Description: https://media.digikey.com/pdf/Data%20Sheets/Phoenix%20Contact%20PDFs/1935161.pdf; ComponentLink2URL: https://www.verical.com/server-webapp/html/getDatasheet?partID=177903; ComponentLink2Description: https://www.verical.com/server-webapp/html/getDatasheet?partID=177903
footprint Power_Connector
pins: 1 "Board Power", 2 "Board Power"

## SPI Tets Connector
designator P?  Supplier Part Number 1: WM7622CT-ND
1.25mm Pitch PicoBlade™ Header, Surface Mount, Right Angle, 4 Circuits; Manufacturer: Molex; Manufacturer Part Number: 53261-0471; Number of Positions: 4; Gender: Male; Current Rating: 1A; Voltage Rating: 125V; Insulation Resistance: 100MR; Contact Resistance: 20mR; Glow Wire Compliant: Non-compliant; Supplier 1: Digi-Key; Stock 1: 20955; Pricing 1: 1=1.24000, 10=1.08900, 100=0.93970, 500=0.76884 (USD); RoHS: Yes; Mount: Surface Mount; Contact Plating: Tin; Contact Material: Bronze; Color: Beige; Housing Material: Thermoplastic; Min Operating Temperature: -40°C; Max Operating Temperature: 85°C; Number of Rows: 1; Package Quantity: 1000; Packaging: Tape and Reel; Termination: SMD/SMT; Number of Contacts: 4; Orientation: Right Angle; Voltage Rating (AC): 125V; Working Voltage: 125V; Number of Circuits: 4; Voltage Rating (DC): 125V; Pitch: 1.25mm; Lead Pitch: 1.25mm; Radiation Hardening: No; REACH SVHC: Unknown; Flammability Rating: UL94 V-0; Lead Free: Lead Free; ComponentLink1URL: https://datasheet.ciiva.com/5153/0532610471-pcb-headers-170942-5153858.pdf?src-supplier=Mouser; ComponentLink1Description: https://datasheet.ciiva.com/5153/0532610471-pcb-headers-170942-5153858.pdf?src-supplier=Mouser; ComponentLink2URL: https://datasheet.ciiva.com/11750/0900766b8078fc7e-11750771.pdf?src-supplier=RSComponents; ComponentLink2Description: https://datasheet.ciiva.com/11750/0900766b8078fc7e-11750771.pdf?src-supplier=RSComponents; ComponentLink3URL: https://datasheet.ciiva.com/30219/60210532610471-pcb-headers-30219733.pdf?src-supplier=Onlinecomponents.com; ComponentLink3Description: https://datasheet.ciiva.com/30219/60210532610471-pcb-headers-30219733.pdf?src-supplier=Onlinecomponents.com; ComponentLink4URL: https://datasheet.ciiva.com/7167/1626149-7167499.pdf?src-supplier=Newark; ComponentLink4Description: https://datasheet.ciiva.com/7167/1626149-7167499.pdf?src-supplier=Newark; ComponentLink5URL: https://datasheet.ciiva.com/34303/1932555-34303343.pdf?src-supplier=Jameco; ComponentLink5Description: https://datasheet.ciiva.com/34303/1932555-34303343.pdf?src-supplier=Jameco; ComponentLink6URL: https://datasheet.ciiva.com/7844/1867384-7844038.pdf?src-supplier=Element14; ComponentLink6Description: https://datasheet.ciiva.com/7844/1867384-7844038.pdf?src-supplier=Element14; ComponentLink7URL: https://datasheet.ciiva.com/16658/0532610471-pcb-headers-16658425.pdf?src-supplier=Avnet+Europe; ComponentLink7Description: https://datasheet.ciiva.com/16658/0532610471-pcb-headers-16658425.pdf?src-supplier=Avnet+Europe; ComponentLink8URL: https://datasheet.ciiva.com/10088/0532610471-pcb-headers-10088986.pdf?src-supplier=Avnet; ComponentLink8Description: https://datasheet.ciiva.com/10088/0532610471-pcb-headers-10088986.pdf?src-supplier=Avnet; ComponentLink9URL: https://datasheet.ciiva.com/18448/70091119-18448940.pdf?src-supplier=Allied+Electronics; ComponentLink9Description: https://datasheet.ciiva.com/18448/70091119-18448940.pdf?src-supplier=Allied+Electronics
footprint SPI Testing Connector
pins: 1, 2, 3, 4, MP1, MP2

## Test Point
designator TP?  (value not drawn)
footprint Test Point
pins: 1

## Top Layer 0hm Resistor
designator R?
Top Layer 0hm Resistor
footprint Top Layer 0ohm Resistor
pins: 1, 2